# EAGLE library part L6203 (library andereBauteile)
DMOS FULL BRIDGE DRIVER
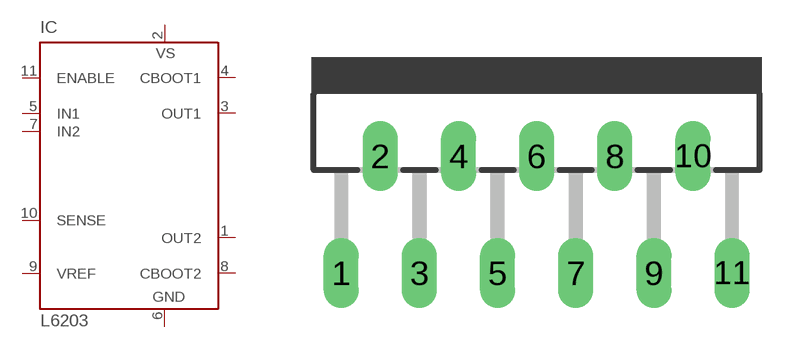
[diagram p26: symbol with the pads of MULTIWATT-11; footprint MULTIWATT-11]

Designator prefix IC

## L6203  [MULTIWATT-11]
1  OUT2  out
2  VS  pwr
3  OUT1  out
4  CBOOT1  in
5  IN1  in
6  GND  pwr
7  IN2  in
8  CBOOT2  in
9  VREF  in
10  SENSE  in
11  ENABLE  in

## Footprint MULTIWATT-11 (pad centres in mm)
Muliwatt 11 lead
drill 1.016 long: 1 -8.5,-7.62; 2 -6.8,-2.54; 3 -5.1,-7.62; 4 -3.4,-2.54; 5 -1.7,-7.62; 6 0,-2.54; 7 1.7,-7.62; 8 3.4,-2.54; 9 5.1,-7.62; 10 6.8,-2.54; 11 8.5,-7.62